# EAGLE library part SI4953 (library NullSpaceLabsCom)
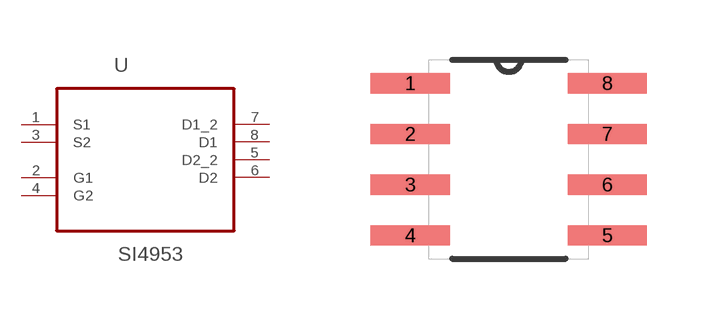
[diagram p3: symbol with the pads of IRF9358PBF_SOIC127P600X175-8N; footprint IRF9358PBF_SOIC127P600X175-8N]

Designator prefix -

## SI4953  [IRF9358PBF_SOIC127P600X175-8N]
1  S1  pas
2  G1  pas
3  S2  pas
4  G2  pas
5  D2_2  pas
6  D2  pas
7  D1_2  pas
8  D1  pas

## Footprint IRF9358PBF_SOIC127P600X175-8N (pad centres in mm)
smd 1.981 x 0.508: 1 -2.464,1.905; 2 -2.464,0.635; 3 -2.464,-0.635; 4 -2.464,-1.905; 5 2.464,-1.905; 6 2.464,-0.635; 7 2.464,0.635; 8 2.464,1.905